# Altium footprint library SENSOR.PcbLib: 86 footprints (part 1 of 6)
Each footprint in its own frame and in the unit in brackets; x right, y up, seen from the top. Pads: shape width x height; smd on the part's side, far side on the other; paste and mask are expansions set on the pad; w line width, h text height; cw(c..) or ccw(c..) is an arc to the next point about the centre after c.
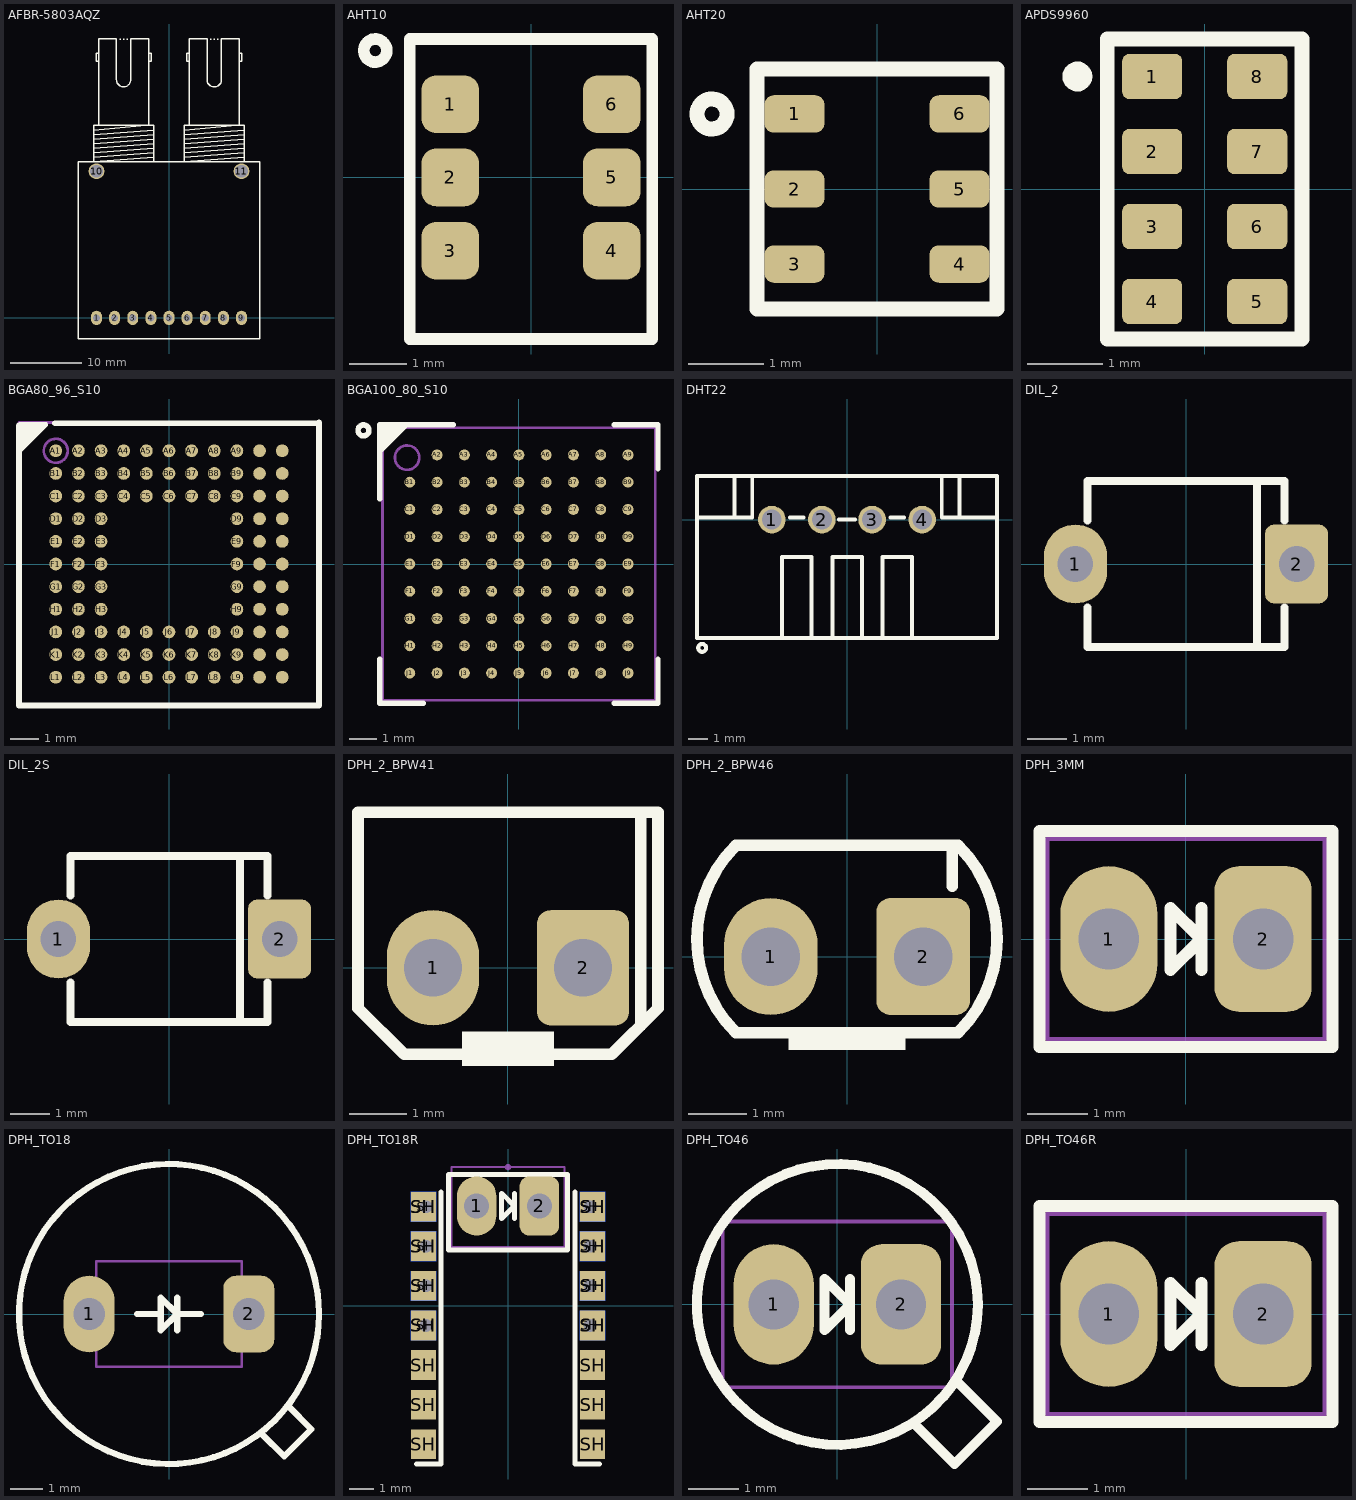
[diagram p0: the footprints below, top view; thin cyan lines are the x and y axes]

## AFBR-5803AQZ [mm] "FIBER OPTIC"
height 14.8
pads (11):
  oval 1.524x2 hole 1: 1(-10.16,0) 2(-7.62,0) 3(-5.08,0) 4(-2.54,0) 5(0,0) 6(2.54,0) 7(5.08,0) 8(7.62,0) 9(10.16,0)
  round 2.2 hole 1.8: 10(-10.16,20.54) 11(10.16,20.54)
Top Overlay:
  lines w0.2: -12.7,-2.965 12.7,-2.965 ; -12.7,-2.92 -12.7,21.88 12.7,21.88 12.7,-2.92 ; -10.559,23.15 -2.159,23.785 ; -10.559,23.785 -2.159,24.42 ; -10.559,24.42 -2.159,25.055 ; -10.559,25.055 -2.159,25.69 ; -10.559,25.69 -2.159,26.325 ; -10.559,26.325 -3.184,26.98 ; -10.55,22.515 -2.159,23.15 ; -9.859,35.985 -10.225,35.985 -10.225,37.085 -9.859,37.085 ; -7.359,33.378 ccw(c-6.359,33.378) -5.359,33.385 -5.359,39.08 -2.859,39.08 -2.859,26.98 -9.859,26.98 -9.859,39.08 -7.359,39.08 -7.359,33.378 ; -6.923,39.047 -6.796,39.047 ; -6.415,39.047 -6.288,39.047 ; -5.907,39.047 -5.78,39.047 ; -2.859,35.985 -2.478,35.985 -2.478,37.085 -2.859,37.085 ; -2.168,22.515 -10.559,21.88 ; 2.141,23.15 10.541,23.785 ; 2.141,23.785 10.541,24.42 ; 2.141,24.42 10.541,25.055 ; 2.141,25.055 10.541,25.69 ; 2.141,25.69 10.541,26.325 ; 2.141,26.325 9.516,26.98 ; 2.15,22.515 10.541,23.15 ; 2.841,35.985 2.475,35.985 2.475,37.085 2.841,37.085 ; 5.341,33.378 ccw(c6.341,33.378) 7.341,33.385 7.341,39.08 9.841,39.08 9.841,26.98 2.841,26.98 2.841,39.08 5.341,39.08 5.341,33.378 ; 5.777,39.047 5.904,39.047 ; 6.285,39.047 6.412,39.047 ; 6.793,39.047 6.92,39.047 ; 9.841,35.985 10.222,35.985 10.222,37.085 9.841,37.085 ; 10.532,22.515 2.141,21.88 ; -10.559,21.88 -10.559,26.98 -2.159,26.98 -2.159,21.88 -10.559,21.88 ; 2.141,21.88 2.141,26.98 10.541,26.98 10.541,21.88 2.141,21.88

## AHT10 [mm] "ASAIR AOSONG AHT10 humidity and temp sensor 4X5x1.6mm"
pads (6):
  rrect50% 1x1 smd paste-0.05 mask+0.075: 1(-1.4,1.27) 2(-1.4,0) 3(-1.4,-1.27) 4(1.4,-1.27) 5(1.4,0) 6(1.4,1.27)
Top Overlay:
  circle w0.2: c-2.7,2.2 r0.2
  lines w0.2: -2.1,-2.8 2.1,-2.8 2.1,2.4 -2.1,2.4 -2.1,-2.8
3D body "AHT10.step": height 1.65, standoff 0, extent -2,-2.725 2,2.275

## AHT20 [mm] "ASAIR AOSONG AHT20 humidity and temp sensor 3X3x1mm"
pads (6):
  rrect50% 0.8x0.5 smd paste-0.05 mask+0.075: 1(-1.1,1) 2(-1.1,0) 3(-1.1,-1) 4(1.1,-1) 5(1.1,0) 6(1.1,1)
Top Overlay:
  circle w0.2: c-2.2,1 r0.2
  lines w0.2: -1.6,-1.6 -1.6,1.6 1.6,1.6 1.6,-1.6 -1.6,-1.6
3D body: height 1, standoff 0.98, extent -0.55,0.8 0.55,1.2
3D body: height 0.98, standoff 0.2, extent -1.4,-1.4 1.4,1.4
3D body: height 0.02, standoff 0, extent -0.625,0.9 -0.325,1.2
3D body: height 0.02, standoff 0, extent 0.725,0.8 1.275,1.2
3D body: height 0.02, standoff 0, extent 0.725,-0.2 1.275,0.2
3D body: height 0.02, standoff 0, extent 0.725,-1.2 1.275,-0.8
3D body: height 0.02, standoff 0, extent -1.275,-1.2 -0.725,-0.8
3D body: height 0.02, standoff 0, extent -1.275,-0.2 -0.725,0.2
3D body: height 0.02, standoff 0, extent -1.275,0.8 -0.725,1.2
3D body: height 0.2, standoff 0.02, extent -1.5,-1.5 1.5,1.5

## APDS9960 [mm] "APDS-9960 light sensor, 2.4x4x1.35mm, 1.4mm pitch"
height 1.35
pads (8):
  rrect30% 0.8x0.6 smd paste-0.025 mask+0.05: 1(-0.7,1.5) 2(-0.7,0.5) 3(-0.7,-0.5) 4(-0.7,-1.5) 5(0.7,-1.5) 6(0.7,-0.5) 7(0.7,0.5) 8(0.7,1.5)
Top Overlay:
  circle w0.2: c-1.7,1.5 r0.1
  lines w0.2: -1.3,-2 1.3,-2 1.3,2 -1.3,2 -1.3,-2
3D body "APDS-9960.step": height 1.3, standoff -0.05, extent -1.18,-1.97 1.18,1.97

## BGA80_96_S10 [mm] "BGA, 96-Balls, Body 10.6x10mm, Pitch 0.8mm"
height 1.6
pads (96):
  round 0.45 smd: A1(-4,4) A2(-3.2,4) A3(-2.4,4) A4(-1.6,4) A5(-0.8,4) A6(0,4) A7(0.8,4) A8(1.6,4) A9(2.4,4) A10(3.2,4) A11(4,4) B1(-4,3.2) B2(-3.2,3.2) B3(-2.4,3.2) B4(-1.6,3.2) B5(-0.8,3.2) B6(0,3.2) B7(0.8,3.2) B8(1.6,3.2) B9(2.4,3.2) B10(3.2,3.2) B11(4,3.2) C1(-4,2.4) C2(-3.2,2.4) C3(-2.4,2.4) C4(-1.6,2.4) C5(-0.8,2.4) C6(0,2.4) C7(0.8,2.4) C8(1.6,2.4) C9(2.4,2.4) C10(3.2,2.4) C11(4,2.4) D1(-4,1.6) D2(-3.2,1.6) D3(-2.4,1.6) D9(2.4,1.6) D10(3.2,1.6) D11(4,1.6) E1(-4,0.8) E2(-3.2,0.8) E3(-2.4,0.8) E9(2.4,0.8) E10(3.2,0.8) E11(4,0.8) F1(-4,0) F2(-3.2,0) F3(-2.4,0) F9(2.4,0) F10(3.2,0) F11(4,0) G1(-4,-0.8) G2(-3.2,-0.8) G3(-2.4,-0.8) G9(2.4,-0.8) G10(3.2,-0.8) G11(4,-0.8) H1(-4,-1.6) H2(-3.2,-1.6) H3(-2.4,-1.6) H9(2.4,-1.6) H10(3.2,-1.6) H11(4,-1.6) J1(-4,-2.4) J2(-3.2,-2.4) J3(-2.4,-2.4) J4(-1.6,-2.4) J5(-0.8,-2.4) J6(0,-2.4) J7(0.8,-2.4) J8(1.6,-2.4) J9(2.4,-2.4) J10(3.2,-2.4) J11(4,-2.4) K1(-4,-3.2) K2(-3.2,-3.2) K3(-2.4,-3.2) K4(-1.6,-3.2) K5(-0.8,-3.2) K6(0,-3.2) K7(0.8,-3.2) K8(1.6,-3.2) K9(2.4,-3.2) K10(3.2,-3.2) K11(4,-3.2) L1(-4,-4) L2(-3.2,-4) L3(-2.4,-4) L4(-1.6,-4) L5(-0.8,-4) L6(0,-4) L7(0.8,-4) L8(1.6,-4) L9(2.4,-4) L10(3.2,-4) L11(4,-4)
Top Overlay:
  region: -4.3,5 -5.3,4 -5.3,5
  lines w0.2: -5.3,4 -4.382,4.921 ; -5.3,4.896 -5.3,-5 5.3,-5 5.3,5 ; -4.026,4.975 5.275,4.975
Mechanical 5:
  circle w0.1: c-4,4 r0.424
  lines w0.1: -5.3,-5 -5.3,5 5.3,5 5.3,-5 -5.3,-5
3D body: height 1.6, standoff 0, extent -5.299,-4.999 5.299,4.999
3D body: height 1.6, standoff 1.6, extent -4.424,3.576 -3.576,4.424

## BGA100_80_S10 [mm] "IBGA, 80-Balls, Body 10x10mm, Pitch 1mm"
height 1.55
pads (80):
  round 0.4 smd: A2(-3,4) A3(-2,4) A4(-1,4) A5(0,4) A6(1,4) A7(2,4) A8(3,4) A9(4,4) B1(-4,3) B2(-3,3) B3(-2,3) B4(-1,3) B5(0,3) B6(1,3) B7(2,3) B8(3,3) B9(4,3) C1(-4,2) C2(-3,2) C3(-2,2) C4(-1,2) C5(0,2) C6(1,2) C7(2,2) C8(3,2) C9(4,2) D1(-4,1) D2(-3,1) D3(-2,1) D4(-1,1) D5(0,1) D6(1,1) D7(2,1) D8(3,1) D9(4,1) E1(-4,0) E2(-3,0) E3(-2,0) E4(-1,0) E5(0,0) E6(1,0) E7(2,0) E8(3,0) E9(4,0) F1(-4,-1) F2(-3,-1) F3(-2,-1) F4(-1,-1) F5(0,-1) F6(1,-1) F7(2,-1) F8(3,-1) F9(4,-1) G1(-4,-2) G2(-3,-2) G3(-2,-2) G4(-1,-2) G5(0,-2) G6(1,-2) G7(2,-2) G8(3,-2) G9(4,-2) H1(-4,-3) H2(-3,-3) H3(-2,-3) H4(-1,-3) H5(0,-3) H6(1,-3) H7(2,-3) H8(3,-3) H9(4,-3) J1(-4,-4) J2(-3,-4) J3(-2,-4) J4(-1,-4) J5(0,-4) J6(1,-4) J7(2,-4) J8(3,-4) J9(4,-4)
Top Overlay:
  circle w0.2: c-5.7,4.9 r0.2
  region: -5.1,5.1 -4,5.1 -5.1,4
  lines w0.2: -5.1,-3.5 -5.1,-5.1 -3.5,-5.1 ; -5.1,2.4 -5.1,5.1 -2.4,5.1 ; 3.5,-5.1 5.1,-5.1 5.1,-3.5 ; 3.5,5.1 5.1,5.1 5.1,3.5
Mechanical 5:
  circle w0.1: c-4.1,3.9 r0.447
  lines w0.1: -5,-5 -5,5 5,5 5,-5 -5,-5
3D body: height 1.55, standoff 1.55, extent -4.547,3.453 -3.653,4.347
3D body: height 1.55, standoff 0.35, extent -4.999,-4.999 4.999,4.999

## DHT22 [mm] "Sensor Humidity and Temp."
pads (4):
  round 1.4 / inner round 1.4 / far side oval 1.4x2.2 hole 1 mask+0.1: 1(-3.81,0) 2(-1.27,0) 3(1.27,0) 4(3.81,0)
Top Overlay:
  circle w0.2: c-7.34,-6.5 r0.2
  lines w0.2: -7.6,0.1 -4.8,0.1 -4.8,2.2 ; -5.7,0.1 -5.7,2.2 ; -3.3,-6 -3.3,-1.9 -1.8,-1.9 -1.8,-6 ; -2.9,0.1 -2.2,0.1 ; -0.74,-6 -0.74,-1.9 0.76,-1.9 0.76,-6 ; -0.4,0 0.4,0 ; 1.8,-6 1.8,-1.9 3.3,-1.9 3.3,-6 ; 2.2,0.1 2.9,0.1 ; 4.8,2.2 4.8,0.1 7.6,0.1 ; 5.7,0.1 5.7,2.2 ; -7.6,-6 7.6,-6 7.6,2.2 -7.6,2.2 -7.6,-6
3D body "User Library-DHT22.step": height 25.1, standoff -8.5, extent -7.55,-5.9 7.55,2.11

## DIL_2 [mm] "Photodiode, Silicon PIN, BPW34"
pads (2):
  oval 1.6x2 hole 0.9: 1(-2.8,0)
  rrect30% 1.6x2 hole 0.9: 2(2.8,0)
Top Overlay:
  lines w0.2: -2.5,-1.1 -2.5,-2.1 2.5,-2.1 2.5,-1.1 ; -2.5,1.1 -2.5,2.1 2.5,2.1 2.5,1.1 ; 1.8,-2 1.8,2
3D body "BPW34B.STEP": height 2.85, standoff -2.52, extent -3.061,-2 3.061,2
3D body: height 2.83, standoff 2.42, extent -2,-1.7 2,1.7

## DIL_2S [mm] "Photodiode, Silicon PIN, BPW34S"
pads (2):
  oval 1.6x2 hole 0.9: 1(-2.8,0)
  rrect30% 1.6x2 hole 0.9: 2(2.8,0)
Top Overlay:
  lines w0.2: -2.5,-1.1 -2.5,-2.1 2.5,-2.1 2.5,-1.1 ; -2.5,1.1 -2.5,2.1 2.5,2.1 2.5,1.1 ; 1.8,-2 1.8,2
3D body "User Library-bpw34s.step": height 1.22, standoff 0, extent -3.204,-1.95 3.203,1.95

## DPH_2_BPW41 [mm] "Photodiode, Silicon PIN, BPW41"
pads (2):
  oval 1.6x2 hole 1: 1(-1.3,0)
  rrect30% 1.6x2 hole 1: 2(1.3,0)
Top Overlay:
  rectangle: -0.8,-1.7 0.8,-1.1
  lines w0.2: 2.3,-1 2.3,2.6 ; -2.6,-0.7 -2.6,2.7 2.6,2.7 2.6,-0.7 1.8,-1.5 -1.8,-1.5 -2.6,-0.7
3D body "User Library-BPW46.step": height 7.2, standoff -12.9, extent -2.5,-1.2 2.5,1.8

## DPH_2_BPW46 [mm] "Photodiode, Silicon PIN, BPW46"
pads (2):
  oval 1.6x2 hole 1: 1(-1.3,0)
  rrect30% 1.6x2 hole 1: 2(1.3,0)
Top Overlay:
  rectangle: -1,-1.6 1,-1.3
  lines w0.2: 1.8,1.2 1.8,1.9 ; -1.9,-1.3 cw(c-0.3,0.3) -1.9,1.9 1.9,1.9 cw(c0.3,0.3) 1.9,-1.3 -1.9,-1.3
3D body "User Library-BPW46.step": height 7.2, standoff -12.9, extent -2.5,-1.2 2.5,1.8

## DPH_3MM [mm] "PHOTO TRANSISTOR, LED 3mm dia lens, 0.100\" pitch"
height 13.335
pads (2):
  oval 1.6x2.4 hole 1: 1(-1.27,0)
  rrect50% 1.6x2.4 hole 1: 2(1.27,0)
Top Overlay:
  lines w0.2: 0.254,-0.508 0.254,0.508 ; -2.413,-1.778 -2.413,1.778 2.413,1.778 2.413,-1.778 -2.413,-1.778 ; -0.254,-0.508 0.254,0 -0.254,0.508 -0.254,-0.508
Mechanical 13:
  lines w0.076: -2.286,-1.651 -2.286,1.651 2.286,1.651 2.286,-1.651 -2.286,-1.651
3D body "LED_3mm_T1.stp": height 0.79, standoff -2.4, extent -1.597,-6.33 1.597,13.12

## DPH_TO18 [mm] "LED TO-18 TO-5 form"
height 13.335
pads (2):
  oval 1.6x2.4 hole 1: 1(-2.5,0)
  rrect50% 1.6x2.4 hole 1: 2(2.5,0)
Top Overlay:
  circle w0.2: c0,0 r4.7
  lines w0.2: -1,0 -0.254,0 ; 0.254,-0.508 0.254,0.508 ; 1,0 0.254,0 ; 2.899,-3.748 3.606,-4.455 4.455,-3.606 3.748,-2.899 ; 0.254,0 -0.254,-0.508 -0.254,0.508 0.254,0
Mechanical 13:
  lines w0.076: -2.286,-1.651 -2.286,1.651 2.286,1.651 2.286,-1.651 -2.286,-1.651
3D body "User Library-S2386-5K_norm.step": height 4.3, standoff -19.8, extent -4.55,-4.55 4.55,4.55

## DPH_TO18R [mil] "Photodiode TO-5 TO-18, edge straddling"
height 525
pads (33):
  round 10 on Mech15: 0(0,220.47)
  oval 62.99x94.49 hole 39.37: 1(-50,158.66)
  rrect50% 62.99x94.49 hole 39.37: 2(50,158.66)
  rect 40x47.24 smd: SH(-134.5,-31.5) SH(-134.5,-220.47) SH(-134.5,31.49) SH(-134.5,94.48) SH(-134.5,157.48) SH(-134.49,-157.48) SH(-134.49,-94.49) SH(134.49,-31.5) SH(134.5,-220.47) SH(134.5,31.49) SH(134.5,94.48) SH(134.5,157.48) SH(134.5,-157.48) SH(134.5,-94.49)
  rect 40x47.24 smd far side: SH(-134.5,-31.5) SH(-134.5,31.49) SH(-134.5,94.48) SH(-134.5,157.48) SH(134.49,-31.5) SH(134.5,31.49) SH(134.5,94.48) SH(134.5,157.48)
  round 32 hole 20: SH(-130.5,-31.5) SH(-130.5,31.49) SH(-130.5,94.48) SH(-130.5,157.48) SH(130.49,-31.5) SH(130.5,31.49) SH(130.5,94.48) SH(130.5,157.48)
Top Overlay:
  lines w7.87: -145.67,-251.97 -106.3,-251.97 -106.3,181.1 ; 10,138.66 10,178.66 ; 106.3,181.1 106.3,-251.97 145.67,-251.97 ; -95,88.66 -95,208.66 95,208.66 95,88.66 -95,88.66 ; -10,138.66 10,158.66 -10,178.66 -10,138.66
Mechanical 13:
  lines w3: -90,93.66 -90,220.47 90,220.47 90,93.66 -90,93.66
3D body "TO-5 custom with shield.stp": height 109.1, standoff -172.1, extent -140.32,-224.4 140.33,307.09

## DPH_TO46 [mm] "LED TO-46 form"
height 13.335
pads (2):
  oval 1.6x2.4 hole 1: 1(-1.27,0)
  rrect50% 1.6x2.4 hole 1: 2(1.27,0)
Top Overlay:
  circle w0.2: c0,0 r2.8
  lines w0.2: 0.254,-0.508 0.254,0.508 ; 1.556,-2.404 2.333,-3.182 3.182,-2.333 2.404,-1.556 ; -0.254,-0.508 0.254,0 -0.254,0.508 -0.254,-0.508
Mechanical 13:
  lines w0.076: -2.286,-1.651 -2.286,1.651 2.286,1.651 2.286,-1.651 -2.286,-1.651
3D body "TO-46 Edge straddling.stp": height 6.47, standoff -7.65, extent -2.778,-3.023 3.023,2.778

## DPH_TO46R [mm] "LED TO-46 form, edge straddling"
height 13.335
pads (2):
  oval 1.6x2.4 hole 1: 1(-1.27,0)
  rrect50% 1.6x2.4 hole 1: 2(1.27,0)
Top Overlay:
  lines w0.2: 0.254,-0.508 0.254,0.508 ; -2.413,-1.778 -2.413,1.778 2.413,1.778 2.413,-1.778 -2.413,-1.778 ; -0.254,-0.508 0.254,0 -0.254,0.508 -0.254,-0.508
Mechanical 13:
  lines w0.076: -2.286,-1.651 -2.286,1.651 2.286,1.651 2.286,-1.651 -2.286,-1.651
3D body "TO-46 Edge straddling.stp": height 1.96, standoff -3.82, extent -2.763,-0.228 3.023,13.89